# Altium footprint library 器件库.PcbLib: 15 footprints
Each footprint in its own frame and in the unit in brackets; x right, y up, seen from the top. Pads: shape width x height; smd on the part's side, far side on the other; paste and mask are expansions set on the pad; w line width, h text height; cw(c..) or ccw(c..) is an arc to the next point about the centre after c.
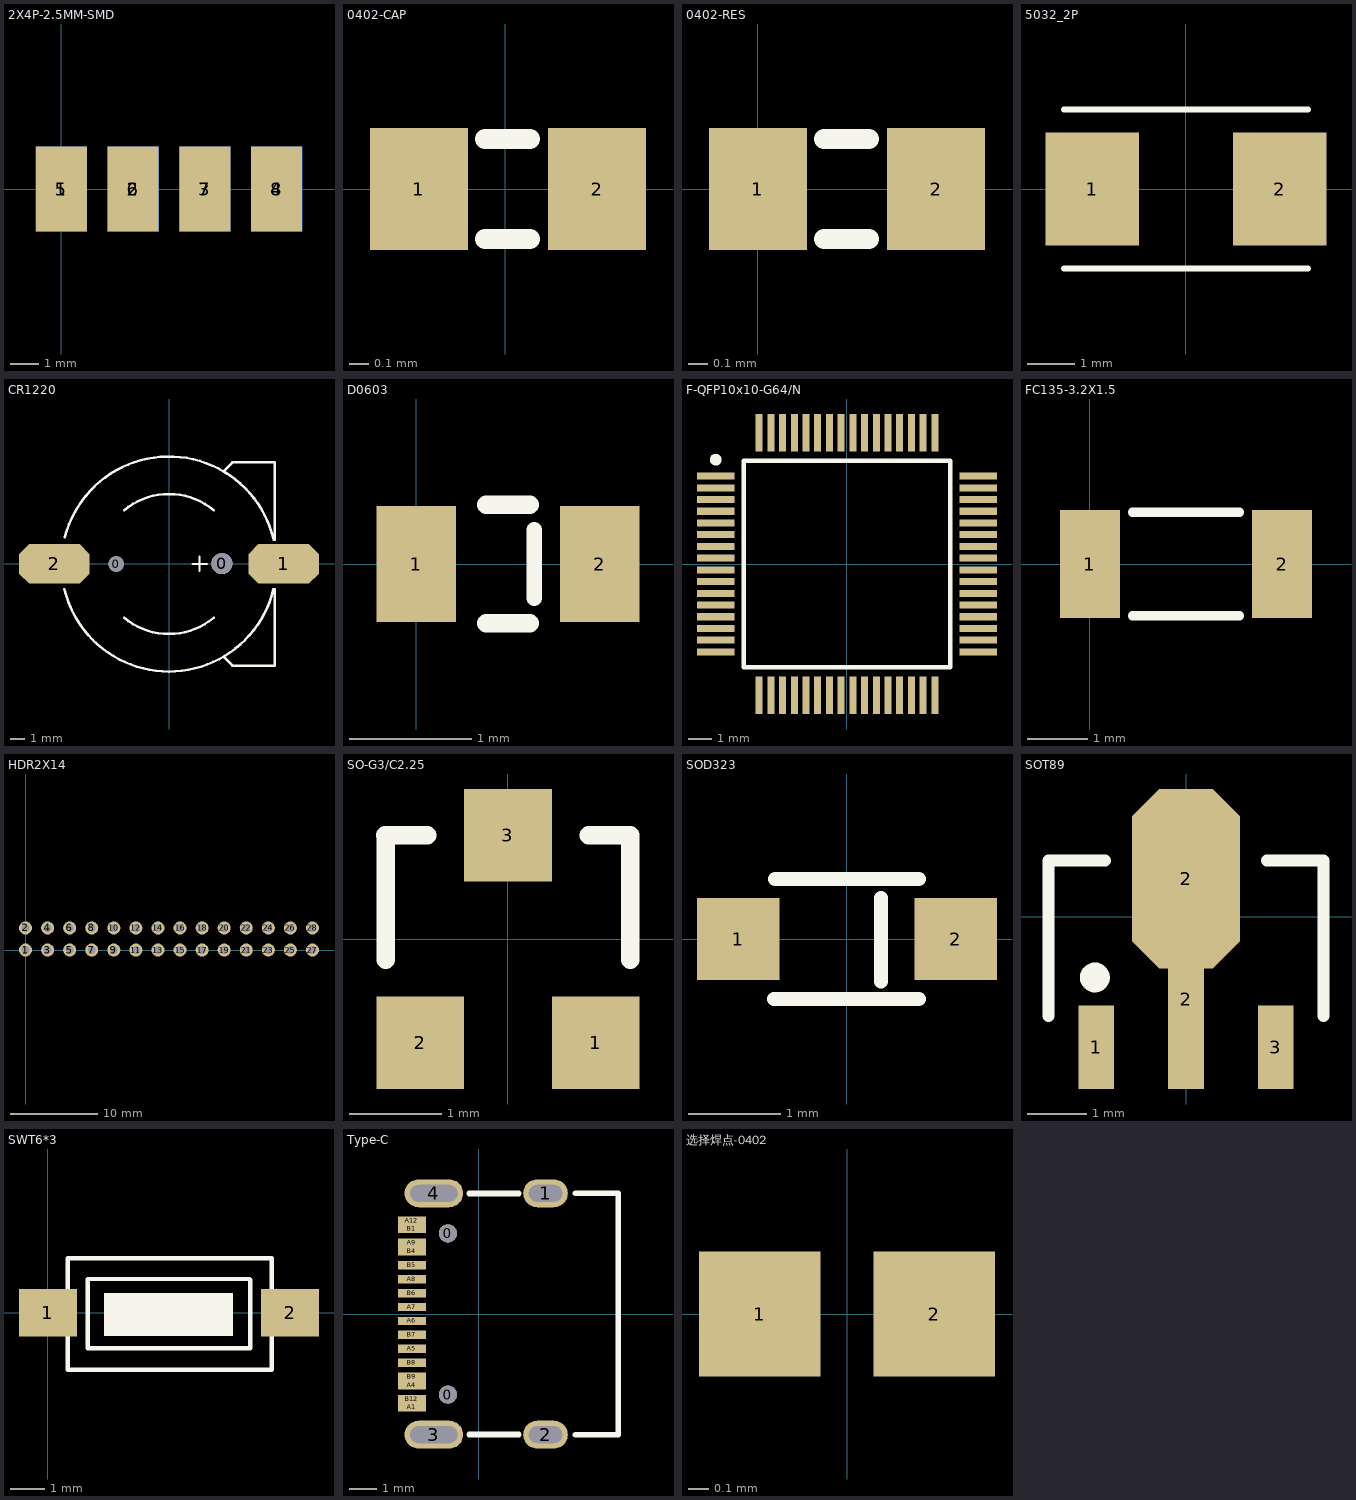
[diagram p0: the footprints below, top view; thin cyan lines are the x and y axes]

## 2X4P-2.5MM-SMD [mm]
pads (8):
  rect 1.8x3 smd: 1(0,0) 2(2.54,0) 3(5.08,0) 4(7.62,0)
  rect 1.8x3 smd far side: 5(0,0) 6(2.54,0) 7(5.08,0) 8(7.62,0)

## 0402-CAP [mm] "Chip Capacitor, 2-Leads, Body 1.00x0.50mm, IPC Medium Density"
height 0.5
pads (2):
  rect 0.5x0.62 smd: 1(-0.44,0) 2(0.47,0)
Top Overlay:
  lines w0.102: -0.102,-0.254 0.127,-0.254 ; -0.102,0.254 0.127,0.254
3D body "CAPCP1005X05N.step": height 0.5, standoff 0, extent -0.525,-0.275 0.525,0.275

## 0402-RES [mm] "Chip Resistor, 2-Leads, Body 1.00x0.50mm, IPC Medium Density"
height 0.5
pads (2):
  rect 0.5x0.62 smd: 1(0,0) 2(0.91,0)
Top Overlay:
  lines w0.102: 0.338,-0.254 0.567,-0.254 ; 0.338,0.254 0.567,0.254
3D body "RESC1005X05N.step": height 0.5, standoff 0, extent -0.072,-0.275 0.978,0.275

## 5032_2P [mm]
pads (2):
  rect 2x2.4 smd: 1(-2,0) 2(2,0)
Top Overlay:
  lines w0.127: -2.6,-1.7 2.6,-1.7 ; -2.6,1.7 2.6,1.7

## CR1220 [mm]
pads (4):
  round 1.1 hole 1.1: 0(-3.754,-0.012)
  round 1.5 hole 1.5: 0(3.746,0.012)
  oct 5x2.8 smd: 1(8.132,-0.01) 2(-8.132,-0.01)
Top Overlay:
  lines w0.152: 1.655,-0.01 2.671,-0.01 ; 2.163,-0.518 2.163,0.498
  lines w0.178: -7.411,-1.8 ccw(c-0.004,-0.012) -0.004,-7.632 ccw(c-0.004,-0.012) 7.404,-1.796 ; -7.38,1.9 cw(c-0.004,-0.012) 7.417,1.72 ; -3.176,-3.825 ccw(c-0.004,-0.012) 3.165,-3.827 ; -3.176,3.8 cw(c-0.004,-0.012) 3.171,3.797 ; 3.896,-6.613 4.496,-7.213 7.496,-7.213 7.496,-1.796 ; 3.921,6.613 4.496,7.187 7.496,7.187 7.496,1.72

## D0603 [mm]
pads (2):
  rect 0.65x0.95 smd: 1(0,0) 2(1.5,0)
Top Overlay:
  lines w0.127: 0.965,-0.279 0.965,0.279
  lines w0.152: 0.572,-0.483 0.928,-0.483 ; 0.572,0.483 0.928,0.483
3D body "0603-res.step": height 0.35, standoff 0, extent -0.125,-0.475 1.625,0.475

## F-QFP10x10-G64/N [mm] "64-Pin Plastic Quad Flat Pack (TQFP)"
height 1.6
pads (64):
  rect 1.6x0.3 smd: 1(-5.6,3.75) 2(-5.6,3.25) 3(-5.6,2.75) 4(-5.6,2.25) 5(-5.6,1.75) 6(-5.6,1.25) 7(-5.6,0.75) 8(-5.6,0.25) 9(-5.6,-0.25) 10(-5.6,-0.75) 11(-5.6,-1.25) 12(-5.6,-1.75) 13(-5.6,-2.25) 14(-5.6,-2.75) 15(-5.6,-3.25) 16(-5.6,-3.75) 33(5.6,-3.75) 34(5.6,-3.25) 35(5.6,-2.75) 36(5.6,-2.25) 37(5.6,-1.75) 38(5.6,-1.25) 39(5.6,-0.75) 40(5.6,-0.25) 41(5.6,0.25) 42(5.6,0.75) 43(5.6,1.25) 44(5.6,1.75) 45(5.6,2.25) 46(5.6,2.75) 47(5.6,3.25) 48(5.6,3.75)
  rect 0.3x1.6 smd: 17(-3.75,-5.6) 18(-3.25,-5.6) 19(-2.75,-5.6) 20(-2.25,-5.6) 21(-1.75,-5.6) 22(-1.25,-5.6) 23(-0.75,-5.6) 24(-0.25,-5.6) 25(0.25,-5.6) 26(0.75,-5.6) 27(1.25,-5.6) 28(1.75,-5.6) 29(2.25,-5.6) 30(2.75,-5.6) 31(3.25,-5.6) 32(3.75,-5.6) 49(3.75,5.6) 50(3.25,5.6) 51(2.75,5.6) 52(2.25,5.6) 53(1.75,5.6) 54(1.25,5.6) 55(0.75,5.6) 56(0.25,5.6) 57(-0.25,5.6) 58(-0.75,5.6) 59(-1.25,5.6) 60(-1.75,5.6) 61(-2.25,5.6) 62(-2.75,5.6) 63(-3.25,5.6) 64(-3.75,5.6)
Top Overlay:
  circle w0.25: c-5.6,4.45 r0.125
  lines w0.2: -4.4,-4.4 -4.4,4.4 4.4,4.4 4.4,-4.4 -4.4,-4.4

## FC135-3.2X1.5 [mm]
pads (2):
  rect 1x1.8 smd: 1(0,0) 2(3.2,0)
Top Overlay:
  lines w0.152: 0.711,-0.864 2.489,-0.864 ; 0.711,0.864 2.489,0.864

## HDR2X14 [mm] "Connector; Header; 14x2 Position"
pads (28):
  round 1.5 hole 0.9: 1(0,0) 2(0,2.54) 3(2.54,0) 4(2.54,2.54) 5(5.08,0) 6(5.08,2.54) 7(7.62,0) 8(7.62,2.54) 9(10.16,0) 10(10.16,2.54) 11(12.7,0) 12(12.7,2.54) 13(15.24,0) 14(15.24,2.54) 15(17.78,0) 16(17.78,2.54) 17(20.32,0) 18(20.32,2.54) 19(22.86,0) 20(22.86,2.54) 21(25.4,0) 22(25.4,2.54) 23(27.94,0) 24(27.94,2.54) 25(30.48,0) 26(30.48,2.54) 27(33.02,0) 28(33.02,2.54)

## SO-G3/C2.25 [mm] "SOT-23; 3 Leads; Body 3.0 x 2.5 mm, inc. leads (LxW max)"
height 1.2
pads (3):
  rect 0.95x1 smd: 1(0.95,-1.125) 2(-0.95,-1.125) 3(0,1.125)
Top Overlay:
  lines w0.2: -1.328,1.125 -0.875,1.125 ; -1.325,-0.225 -1.325,1.125 ; 0.875,1.125 1.325,1.125 1.325,-0.225

## SOD323 [mil] "SODFL, 2-Leads, Body 1.30x2.60mm, IPC Medium Density"
height 39.37
pads (2):
  rect 35x35 smd: 1(-46.26,0) 2(46.26,0)
Top Overlay:
  lines w6: -31,-25.5 30.5,-25.5 ; -30.5,25.5 30.5,25.5 ; 14.44,-18 14.44,17.5
3D body "SOD323.step": height 39.37, standoff 0, extent -51.18,-27.56 51.18,27.56

## SOT89 [mm] "SOT89, 3-Leads, Body 4.50x2.45mm, Pitch 1.50mm, Lead Span 4.1mm, IPC Medium Density"
height 1.6
pads (4):
  rect 0.6x1.4 smd: 1(-1.5,-2.181) 3(1.5,-2.181)
  rect 0.6x3 smd: 2(0,-1.381)
  oct 1.8x3 smd: 2(0,0.635)
Top Overlay:
  circle w0.25: c-1.524,-1.016 r0.125
  lines w0.2: -2.3,-1.659 -2.3,0.941 -1.35,0.941 ; 1.35,0.941 2.3,0.941 2.3,-1.659
Mechanical 13:
  lines w0.1: -2.3,-1.659 -2.3,0.941 ; 2.3,-1.659 2.3,0.941
3D body "SOT89-150P409X160-3N.step": height 1.6, standoff 0, extent -2.3,-2.581 2.3,1.469

## SWT6*3 [mm]
pads (2):
  rect 1.7x1.4 smd: 1(0,0) 2(7.112,0)
Top Overlay:
  rectangle: 1.651,-0.686 5.436,0.584
  lines w0.127: 0.584,-1.676 0.584,0 0.584,1.6 6.579,1.6 6.579,-1.676 0.584,-1.676 ; 1.168,-1.041 1.168,0.991 5.918,0.991 5.944,0.965 5.944,-1.041 1.168,-1.041

## Type-C [mm]
pads (22):
  round 0.65 hole 0.65: 0(-1.105,-2.89) 0(-1.105,2.89)
  oval 1.6x1 hole 0.6 slot 1.2 at 0 deg: 1(2.395,4.325) 2(2.395,-4.325)
  oval 2.1x1 hole 0.6 slot 1.7 at 0 deg: 3(-1.605,-4.325) 4(-1.605,4.325)
  rect 1x0.3 smd: A1(-2.395,-3.35) A4(-2.395,-2.55) A5(-2.395,-1.25) A6(-2.395,-0.25) A7(-2.395,0.25) A8(-2.395,1.25) A9(-2.395,2.55) A12(-2.395,3.35) B1(-2.395,3.05) B4(-2.395,2.25) B5(-2.395,1.75) B6(-2.395,0.75) B7(-2.395,-0.75) B8(-2.395,-1.75) B9(-2.395,-2.25) B12(-2.395,-3.05)
Top Overlay:
  lines w0.203: -0.343,-4.318 1.435,-4.318 ; -0.343,4.318 1.435,4.318 ; 3.467,-4.325 4.995,-4.325 4.995,4.325 3.467,4.325

## 选择焊点-0402 [mm]
pads (2):
  rect 0.6x0.62 smd: 1(-0.432,0) 2(0.432,0)